# Altium schematic symbol library C_sensor.SchLib: 1 symbol
Pins are listed as number, name and electrical type; pins without a type are passive.

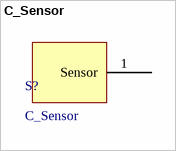
[diagram p0: symbol C_Sensor]

## C_Sensor
designator S?
footprint SOP2
pins: 1 Sensor